# EAGLE library part AD9649?-* (library ic-AD)
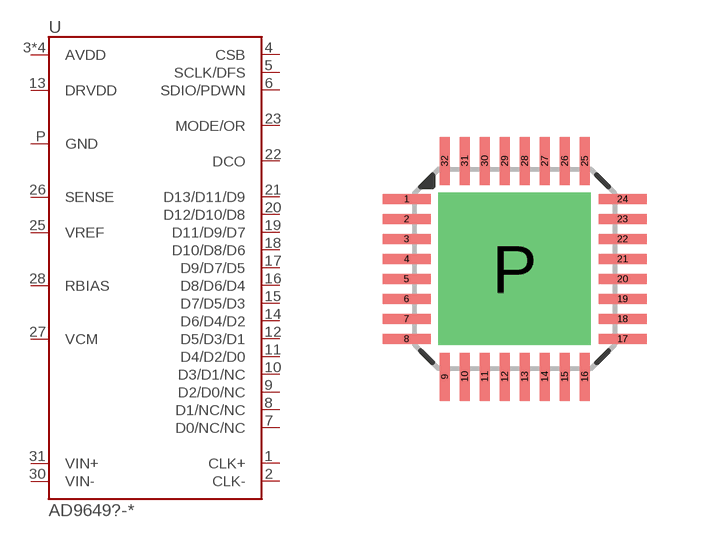
[diagram p9: symbol with the pads of CSP32-0.5-PAD; footprint CSP32-0.5-PAD]

Designator prefix U

## AD9649CPZ-20, AD9649CPZ-40, AD9649CPZ-80  [CSP32-0.5-PAD]
1  CLK+
2  CLK-
3  AVDD
4  CSB
5  SCLK/DFS
6  SDIO/PDWN
7  D0/NC/NC
8  D1/NC/NC
9  D2/D0/NC
10  D3/D1/NC
11  D4/D2/D0
12  D5/D3/D1
13  DRVDD
14  D6/D4/D2
15  D7/D5/D3
16  D8/D6/D4
17  D9/D7/D5
18  D10/D8/D6
19  D11/D9/D7
20  D12/D10/D8
21  D13/D11/D9
22  DCO
23  MODE/OR
24  AVDD
25  VREF
26  SENSE
27  VCM
28  RBIAS
29  AVDD
30  VIN-
31  VIN+
32  AVDD
P  GND

## Footprint CSP32-0.5-PAD (pad centres in mm)
smd 1.2 x 0.25: 1 -2.7,1.75; 2 -2.7,1.25; 3 -2.7,0.75; 4 -2.7,0.25; 5 -2.7,-0.25; 6 -2.7,-0.75; 7 -2.7,-1.25; 8 -2.7,-1.75; 17 2.7,-1.75; 18 2.7,-1.25; 19 2.7,-0.75; 20 2.7,-0.25; 21 2.7,0.25; 22 2.7,0.75; 23 2.7,1.25; 24 2.7,1.75
smd 0.25 x 1.2: 9 -1.75,-2.7; 10 -1.25,-2.7; 11 -0.75,-2.7; 12 -0.25,-2.7; 13 0.25,-2.7; 14 0.75,-2.7; 15 1.25,-2.7; 16 1.75,-2.7; 25 1.75,2.7; 26 1.25,2.7; 27 0.75,2.7; 28 0.25,2.7; 29 -0.25,2.7; 30 -0.75,2.7; 31 -1.25,2.7; 32 -1.75,2.7
drill 2.8 pad 3.5 square: P 0,0